# EAGLE library part ARDUINO_SHIELD (library CEDTv75)
Standard footprint for Arduino Shield.
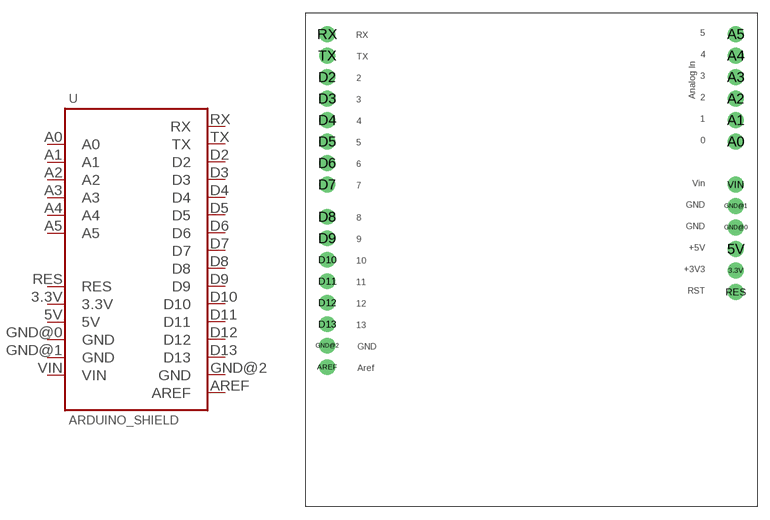
[diagram p28: symbol with the pads of ARDUINO_SHIELD; footprint ARDUINO_SHIELD]

Designator prefix -

## ARDUINO_SHIELD  [ARDUINO_SHIELD]
3.3V  3.3V  pas
5V  5V  pas
A0  A0  pas
A1  A1  pas
A2  A2  pas
A3  A3  pas
A4  A4  pas
A5  A5  pas
AREF  AREF  pas
D2  D2  pas
D3  D3  pas
D4  D4  pas
D5  D5  pas
D6  D6  pas
D7  D7  pas
D8  D8  pas
D9  D9  pas
D10  D10  pas
D11  D11  pas
D12  D12  pas
D13  D13  pas
GND@0  GND  pas
GND@1  GND  pas
GND@2  GND  pas
RES  RES  pas
RX  RX  pas
TX  TX  pas
VIN  VIN  pas

## Footprint ARDUINO_SHIELD (pad centres in mm)
drill 1.016 pad 1.88: 3.3V 50.8,27.94; 5V 50.8,30.48; A0 50.8,43.18; A1 50.8,45.72; A2 50.8,48.26; A3 50.8,50.8; A4 50.8,53.34; A5 50.8,55.88; AREF 2.54,16.51; D2 2.54,50.8; D3 2.54,48.26; D4 2.54,45.72; D5 2.54,43.18; D6 2.54,40.64; D7 2.54,38.1; D8 2.54,34.29; D9 2.54,31.75; D10 2.54,29.21; D11 2.54,26.67; D12 2.54,24.13; D13 2.54,21.59; GND@0 50.8,33.02; GND@1 50.8,35.56; GND@2 2.54,19.05; RES 50.8,25.4; RX 2.54,55.88; TX 2.54,53.34; VIN 50.8,38.1